# Altium footprint library RNCF0805BTE10K4.PcbLib: 3 footprints
Each footprint in its own frame and in the unit in brackets; x right, y up, seen from the top. Pads: shape width x height; smd on the part's side, far side on the other; paste and mask are expansions set on the pad; w line width, h text height; cw(c..) or ccw(c..) is an arc to the next point about the centre after c.
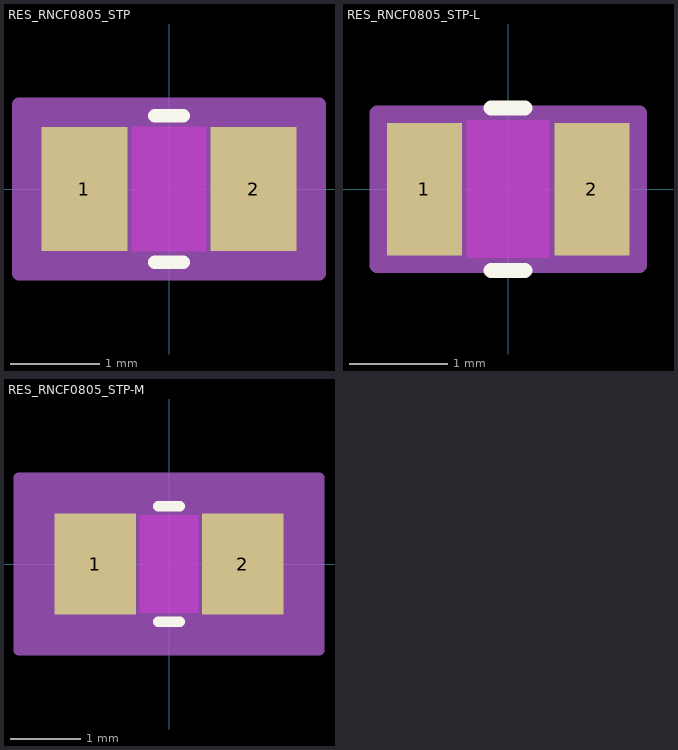
[diagram p0: the footprints below, top view; thin cyan lines are the x and y axes]

## RES_RNCF0805_STP [mil]
pads (2):
  rect 38x55 smd paste+0 mask+0: 1(-37.5,0) 2(37.5,0)
Top Layer keep-out:
  region: -16.5,-25.5 -16.5,25.5 16.5,25.5 16.5,-25.5
Top Overlay:
  lines w6: -6.39,-32.5 6.39,-32.5 ; -6.39,32.5 6.39,32.5
Keep-Out Layer:
  region: -16.5,-27.5 -16.5,27.5 16.5,27.5 16.5,-27.5
Mechanical 13:
  lines w1: -42.5,-27.5 -42.5,27.5 ; -42.5,-27.5 -18.5,-27.5 -18.5,27.5 -42.5,27.5 ; -42.5,-27.5 42.5,-27.5 ; -42.5,-27.5 -42.5,27.5 ; -42.5,27.5 42.5,27.5 ; 42.5,-27.5 18.5,-27.5 18.5,27.5 42.5,27.5 ; 42.5,-27.5 42.5,27.5 ; 42.5,-27.5 42.5,27.5
Mechanical 15:
  region: 66.5,-37.5 -66.5,-37.5 -66.5,37.5 66.5,37.5
  lines w6: -66.5,-37.5 -66.5,37.5 66.5,37.5 66.5,-37.5 -66.5,-37.5
3D body "RES_RNCF0805_STP.step": height 25.98, standoff 0, extent -42.52,-27.48 42.52,27.48

## RES_RNCF0805_STP-L [mil]
pads (2):
  rect 30x53 smd paste+0 mask+0: 1(-33.5,0) 2(33.5,0)
Top Layer keep-out:
  region: -16.5,-25.5 -16.5,25.5 16.5,25.5 16.5,-25.5
Top Overlay:
  lines w6: -6.85,-32.5 6.85,-32.5 ; -6.85,32.5 6.85,32.5
Keep-Out Layer:
  region: -16.5,-27.5 -16.5,27.5 16.5,27.5 16.5,-27.5
Mechanical 13:
  lines w1: -42.5,-27.5 -42.5,27.5 ; -42.5,-27.5 -18.5,-27.5 -18.5,27.5 -42.5,27.5 ; -42.5,-27.5 42.5,-27.5 ; -42.5,-27.5 -42.5,27.5 ; -42.5,27.5 42.5,27.5 ; 42.5,-27.5 18.5,-27.5 18.5,27.5 42.5,27.5 ; 42.5,-27.5 42.5,27.5 ; 42.5,-27.5 42.5,27.5
Mechanical 15:
  region: 52.5,-30.5 -52.5,-30.5 -52.5,30.5 52.5,30.5
  lines w6: -52.5,-30.5 -52.5,30.5 52.5,30.5 52.5,-30.5 -52.5,-30.5
3D body "RES_RNCF0805_STP.step": height 25.98, standoff 0, extent -42.52,-27.48 42.52,27.48

## RES_RNCF0805_STP-M [mil]
pads (2):
  rect 46x57 smd paste+0 mask+0: 1(-41.5,0) 2(41.5,0)
Top Layer keep-out:
  region: -16.5,-25.5 -16.5,25.5 16.5,25.5 16.5,-25.5
Top Overlay:
  lines w6: -6.03,-32.5 6.03,-32.5 ; -6.03,32.5 6.03,32.5
Keep-Out Layer:
  region: -16.5,-27.5 -16.5,27.5 16.5,27.5 16.5,-27.5
Mechanical 13:
  lines w1: -42.5,-27.5 -42.5,27.5 ; -42.5,-27.5 -18.5,-27.5 -18.5,27.5 -42.5,27.5 ; -42.5,-27.5 42.5,-27.5 ; -42.5,-27.5 -42.5,27.5 ; -42.5,27.5 42.5,27.5 ; 42.5,-27.5 18.5,-27.5 18.5,27.5 42.5,27.5 ; 42.5,-27.5 42.5,27.5 ; 42.5,-27.5 42.5,27.5
Mechanical 15:
  region: 84.5,-48.5 -84.5,-48.5 -84.5,48.5 84.5,48.5
  lines w6: -84.5,-48.5 -84.5,48.5 84.5,48.5 84.5,-48.5 -84.5,-48.5
3D body "RES_RNCF0805_STP.step": height 25.98, standoff 0, extent -42.52,-27.48 42.52,27.48